# EAGLE library part ATMEGA2560* (library IC_Embedded)
8-bit Microcontroller with 16/32/64KB In-System Programmable Flash Datasheet <https://ww1.microchip.com/downloads/en/DeviceDoc/ATmega640-1280-1281-2560-2561-Datasheet-DS40002211A.pdf>
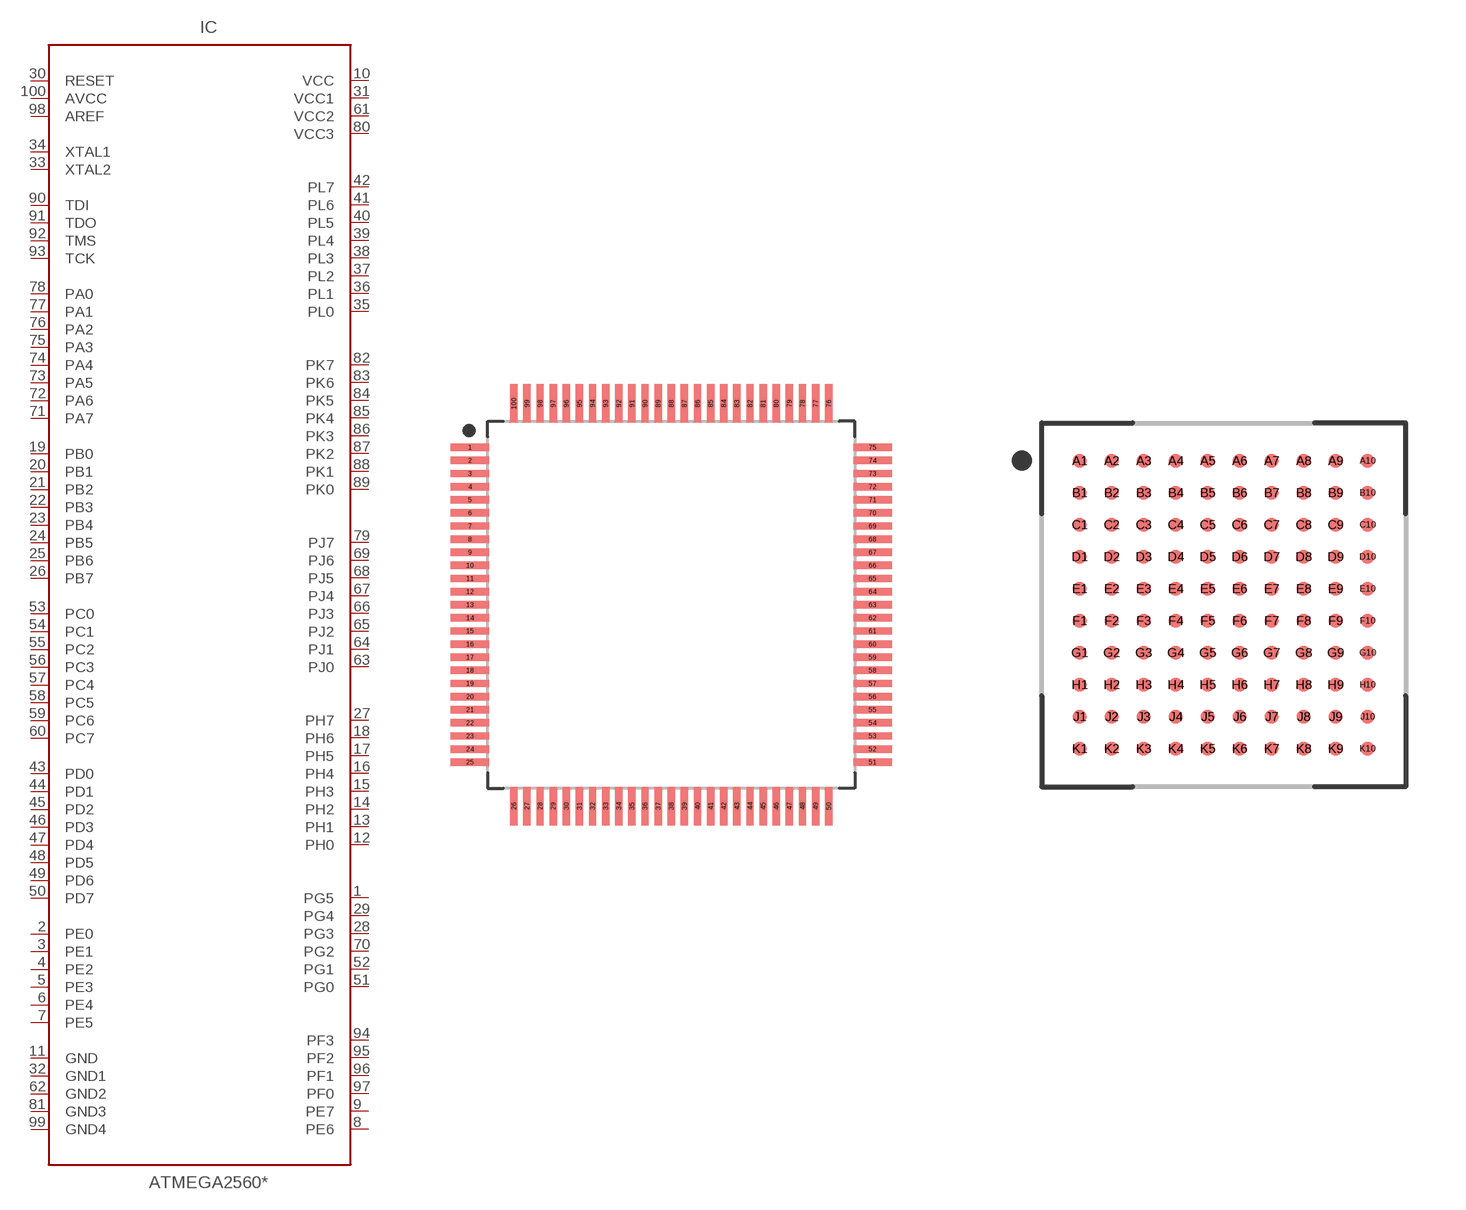
[diagram p2: symbol with the pads of QFP50P1600X1600X160-100N; footprints QFP50P1600X1600X160-100N, BGA100C80P10X10_900X900X120N]

Designator prefix IC

## ATMEGA2560-16AUR_QFP (CATEGORY: IC_Embedded; DESCRIPTION: IC MCU 8BIT 256KB FLASH 100TQFP; MANUFACTURER: Microchip Technology; MPN: ATMEGA2560-16AUR; OPERATING_TEMP: -40°C to 85°C; PART_STATUS: Active; SERIES: AVR® ATmega; SPEED: 16MHz; SUB-CATEGORY: Microcontroller; VALUE: ATMEGA2560), ATMEGA2560-16AU_QFP (CATEGORY: IC_Embedded; DESCRIPTION: IC MCU 8BIT 256KB FLASH 100TQFP; MANUFACTURER: Microchip Technology; MPN: ATMEGA2560-16AU; OPERATING_TEMP: -40°C to 85°C; PART_STATUS: Active; SERIES: AVR® ATmega; SPEED: 16MHz; SUB-CATEGORY: Microcontroller; VALUE: ATMEGA2560), ATMEGA2560V-8AUR_QFP (CATEGORY: IC_Embedded; DESCRIPTION: IC MCU 8BIT 256KB FLASH 100TQFP; MANUFACTURER: Microchip Technology; MPN: ATMEGA2560V-8AUR; OPERATING_TEMP: -40°C to 85°C; PART_STATUS: Active; SERIES: AVR® ATmega; SPEED: 8MHz; SUB-CATEGORY: Microcontroller; VALUE: ATMEGA2560), ATMEGA2560V-8AU_QFP (CATEGORY: IC_Embedded; DESCRIPTION: IC MCU 8BIT 256KB FLASH 100TQFP; MANUFACTURER: Microchip Technology; MPN: ATMEGA2560V-8AU; OPERATING_TEMP: -40°C to 85°C; PART_STATUS: Active; SERIES: AVR® ATmega; SPEED: 8MHz; SUB-CATEGORY: Microcontroller; VALUE: ATMEGA2560)  [QFP50P1600X1600X160-100N]
1  PG5
2  PE0
3  PE1
4  PE2
5  PE3
6  PE4
7  PE5
8  PE6
9  PE7
10  VCC  pwr
11  GND  pwr
12  PH0
13  PH1
14  PH2
15  PH3
16  PH4
17  PH5
18  PH6
19  PB0
20  PB1
21  PB2
22  PB3
23  PB4
24  PB5
25  PB6
26  PB7
27  PH7
28  PG3
29  PG4
30  RESET  in
31  VCC1  pwr
32  GND1  pwr
33  XTAL2  pas
34  XTAL1  pas
35  PL0
36  PL1
37  PL2
38  PL3
39  PL4
40  PL5
41  PL6
42  PL7
43  PD0
44  PD1
45  PD2
46  PD3
47  PD4
48  PD5
49  PD6
50  PD7
51  PG0
52  PG1
53  PC0
54  PC1
55  PC2
56  PC3
57  PC4
58  PC5
59  PC6
60  PC7
61  VCC2  pwr
62  GND2  pwr
63  PJ0
64  PJ1
65  PJ2
66  PJ3
67  PJ4
68  PJ5
69  PJ6
70  PG2
71  PA7
72  PA6
73  PA5
74  PA4
75  PA3
76  PA2
77  PA1
78  PA0
79  PJ7
80  VCC3  pwr
81  GND3  pwr
82  PK7
83  PK6
84  PK5
85  PK4
86  PK3
87  PK2
88  PK1
89  PK0
90  TDI  in
91  TDO  out
92  TMS  in
93  TCK  in
94  PF3
95  PF2
96  PF1
97  PF0
98  AREF  pas
99  GND4  pwr
100  AVCC  pwr

## ATMEGA2560-16CUR_BGA (CATEGORY: IC_Embedded; DESCRIPTION: IC MCU 8BIT 256KB FLASH 100CBGA; MANUFACTURER: Microchip Technology; MPN: ATMEGA2560-16CUR; OPERATING_TEMP: -40°C to 85°C; PART_STATUS: Active; SERIES: AVR® ATmega; SPEED: 16MHz; SUB-CATEGORY: Microcontroller; VALUE: ATMEGA2560), ATMEGA2560-16CU_BGA (CATEGORY: IC_Embedded; DESCRIPTION: IC MCU 8BIT 256KB FLASH 100CBGA; MANUFACTURER: Microchip Technology; MPN: ATMEGA2560-16CU; OPERATING_TEMP: -40°C to 85°C; PART_STATUS: Active; SERIES: AVR® ATmega; SPEED: 16MHz; SUB-CATEGORY: Microcontroller; VALUE: ATMEGA2560), ATMEGA2560V-8CUR_BGA (CATEGORY: IC_Embedded; DESCRIPTION: IC MCU 8BIT 256KB FLASH 100CBGA; MANUFACTURER: Microchip Technology; MPN: ATMEGA2560V-8CUR; OPERATING_TEMP: -40°C to 85°C; PART_STATUS: Active; SERIES: AVR® ATmega; SPEED: 8MHz; SUB-CATEGORY: Microcontroller; VALUE: ATMEGA2560), ATMEGA2560V-8CU_BGA (CATEGORY: IC_Embedded; DESCRIPTION: IC MCU 8BIT 256KB FLASH 100CBGA; MANUFACTURER: Microchip Technology; MPN: ATMEGA2560V-8CU; OPERATING_TEMP: -40°C to 85°C; PART_STATUS: Active; SERIES: AVR® ATmega; SPEED: 8MHz; SUB-CATEGORY: Microcontroller; VALUE: ATMEGA2560)  [BGA100C80P10X10_900X900X120N]
A1  GND  pwr
A2  AREF  pas
A3  PF0
A4  PF2
A5  TMS  in
A6  PK0
A7  PK3
A8  PK6
A9  GND1  pwr
A10  VCC  pwr
B1  AVCC  pwr
B2  PG5
B3  PF1
B4  PF3
B5  TDO  out
B6  PK1
B7  PK4
B8  PK7
B9  PA0
B10  PA2
C1  PE2
C2  PE0
C3  PE1
C4  TCK  in
C5  TDI  in
C6  PK2
C7  PK5
C8  PJ7
C9  PA1
C10  PA3
D1  PE3
D2  PE4
D3  PE5
D4  PE6
D5  PH2
D6  PA4
D7  PA5
D8  PA6
D9  PA7
D10  PG2
E1  PE7
E2  PH0
E3  PH1
E4  PH3
E5  PH5
E6  PJ6
E7  PJ5
E8  PJ4
E9  PJ3
E10  PJ2
F1  VCC1  pwr
F2  PH4
F3  PH6
F4  PB0
F5  PL4
F6  PD1
F7  PJ1
F8  PJ0
F9  PC7
F10  GND2  pwr
G1  GND3  pwr
G2  PB1
G3  PB2
G4  PB5
G5  PL2
G6  PD0
G7  PD5
G8  PC5
G9  PC6
G10  VCC2  pwr
H1  PB3
H2  PB4
H3  RESET  in
H4  PL1
H5  PL3
H6  PL7
H7  PD4
H8  PC4
H9  PC3
H10  PC2
J1  PH7
J2  PG3
J3  PB6
J4  PL0
J5  XTAL2  pas
J6  PL6
J7  PD3
J8  PC1
J9  PC0
J10  PG1
K1  PB7
K2  PG4
K3  VCC3  pwr
K4  GND4  pwr
K5  XTAL1  pas
K6  PL5
K7  PD2
K8  PD6
K9  PD7
K10  PG0

## Footprint QFP50P1600X1600X160-100N (pad centres in mm)
100-QFP, 0.50 mm pitch, 16.00 mm span, 14.00 X 14.00 X 1.60 mm body 100-pin QFP package with 0.50 mm pitch, 16.00 mm lead span1 X 16.00 mm lead span2 with body size 14.00 X 14.00 X 1.60 mm
smd 1.469 x 0.28: 1 -7.671,6; 2 -7.671,5.5; 3 -7.671,5; 4 -7.671,4.5; 5 -7.671,4; 6 -7.671,3.5; 7 -7.671,3; 8 -7.671,2.5; 9 -7.671,2; 10 -7.671,1.5; 11 -7.671,1; 12 -7.671,0.5; 13 -7.671,0; 14 -7.671,-0.5; 15 -7.671,-1; 16 -7.671,-1.5; 17 -7.671,-2; 18 -7.671,-2.5; 19 -7.671,-3; 20 -7.671,-3.5; 21 -7.671,-4; 22 -7.671,-4.5; 23 -7.671,-5; 24 -7.671,-5.5; 25 -7.671,-6; 51 7.671,-6; 52 7.671,-5.5; 53 7.671,-5; 54 7.671,-4.5; 55 7.671,-4; 56 7.671,-3.5; 57 7.671,-3; 58 7.671,-2.5; 59 7.671,-2; 60 7.671,-1.5; 61 7.671,-1; 62 7.671,-0.5; 63 7.671,0; 64 7.671,0.5; 65 7.671,1; 66 7.671,1.5; 67 7.671,2; 68 7.671,2.5; 69 7.671,3; 70 7.671,3.5; 71 7.671,4; 72 7.671,4.5; 73 7.671,5; 74 7.671,5.5; 75 7.671,6
smd 0.28 x 1.469: 26 -6,-7.671; 27 -5.5,-7.671; 28 -5,-7.671; 29 -4.5,-7.671; 30 -4,-7.671; 31 -3.5,-7.671; 32 -3,-7.671; 33 -2.5,-7.671; 34 -2,-7.671; 35 -1.5,-7.671; 36 -1,-7.671; 37 -0.5,-7.671; 38 0,-7.671; 39 0.5,-7.671; 40 1,-7.671; 41 1.5,-7.671; 42 2,-7.671; 43 2.5,-7.671; 44 3,-7.671; 45 3.5,-7.671; 46 4,-7.671; 47 4.5,-7.671; 48 5,-7.671; 49 5.5,-7.671; 50 6,-7.671; 76 6,7.671; 77 5.5,7.671; 78 5,7.671; 79 4.5,7.671; 80 4,7.671; 81 3.5,7.671; 82 3,7.671; 83 2.5,7.671; 84 2,7.671; 85 1.5,7.671; 86 1,7.671; 87 0.5,7.671; 88 0,7.671; 89 -0.5,7.671; 90 -1,7.671; 91 -1.5,7.671; 92 -2,7.671; 93 -2.5,7.671; 94 -3,7.671; 95 -3.5,7.671; 96 -4,7.671; 97 -4.5,7.671; 98 -5,7.671; 99 -5.5,7.671; 100 -6,7.671

## Footprint BGA100C80P10X10_900X900X120N (pad centres in mm)
100-BGA, collapsing, 0.80 mm pitch, 9.00 X 9.00 X 1.20 mm body 100-pin collapsing BGA package with 0.80 mm col pitch and 0.80 mm row pitch with body size 9.00 X 9.00 X 1.20 mm
smd 0.35 x 0.35: A1 -3.6,3.6; A2 -2.8,3.6; A3 -2,3.6; A4 -1.2,3.6; A5 -0.4,3.6; A6 0.4,3.6; A7 1.2,3.6; A8 2,3.6; A9 2.8,3.6; A10 3.6,3.6; B1 -3.6,2.8; B2 -2.8,2.8; B3 -2,2.8; B4 -1.2,2.8; B5 -0.4,2.8; B6 0.4,2.8; B7 1.2,2.8; B8 2,2.8; B9 2.8,2.8; B10 3.6,2.8; C1 -3.6,2; C2 -2.8,2; C3 -2,2; C4 -1.2,2; C5 -0.4,2; C6 0.4,2; C7 1.2,2; C8 2,2; C9 2.8,2; C10 3.6,2; D1 -3.6,1.2; D2 -2.8,1.2; D3 -2,1.2; D4 -1.2,1.2; D5 -0.4,1.2; D6 0.4,1.2; D7 1.2,1.2; D8 2,1.2; D9 2.8,1.2; D10 3.6,1.2; E1 -3.6,0.4; E2 -2.8,0.4; E3 -2,0.4; E4 -1.2,0.4; E5 -0.4,0.4; E6 0.4,0.4; E7 1.2,0.4; E8 2,0.4; E9 2.8,0.4; E10 3.6,0.4; F1 -3.6,-0.4; F2 -2.8,-0.4; F3 -2,-0.4; F4 -1.2,-0.4; F5 -0.4,-0.4; F6 0.4,-0.4; F7 1.2,-0.4; F8 2,-0.4; F9 2.8,-0.4; F10 3.6,-0.4; G1 -3.6,-1.2; G2 -2.8,-1.2; G3 -2,-1.2; G4 -1.2,-1.2; G5 -0.4,-1.2; G6 0.4,-1.2; G7 1.2,-1.2; G8 2,-1.2; G9 2.8,-1.2; G10 3.6,-1.2; H1 -3.6,-2; H2 -2.8,-2; H3 -2,-2; H4 -1.2,-2; H5 -0.4,-2; H6 0.4,-2; H7 1.2,-2; H8 2,-2; H9 2.8,-2; H10 3.6,-2; J1 -3.6,-2.8; J2 -2.8,-2.8; J3 -2,-2.8; J4 -1.2,-2.8; J5 -0.4,-2.8; J6 0.4,-2.8; J7 1.2,-2.8; J8 2,-2.8; J9 2.8,-2.8; J10 3.6,-2.8; K1 -3.6,-3.6; K2 -2.8,-3.6; K3 -2,-3.6; K4 -1.2,-3.6; K5 -0.4,-3.6; K6 0.4,-3.6; K7 1.2,-3.6; K8 2,-3.6; K9 2.8,-3.6; K10 3.6,-3.6